# Altium footprint library 5051102291.PcbLib: 1 footprints
Each footprint in its own frame and in the unit in brackets; x right, y up, seen from the top. Pads: shape width x height; smd on the part's side, far side on the other; paste and mask are expansions set on the pad; w line width, h text height; cw(c..) or ccw(c..) is an arc to the next point about the centre after c.
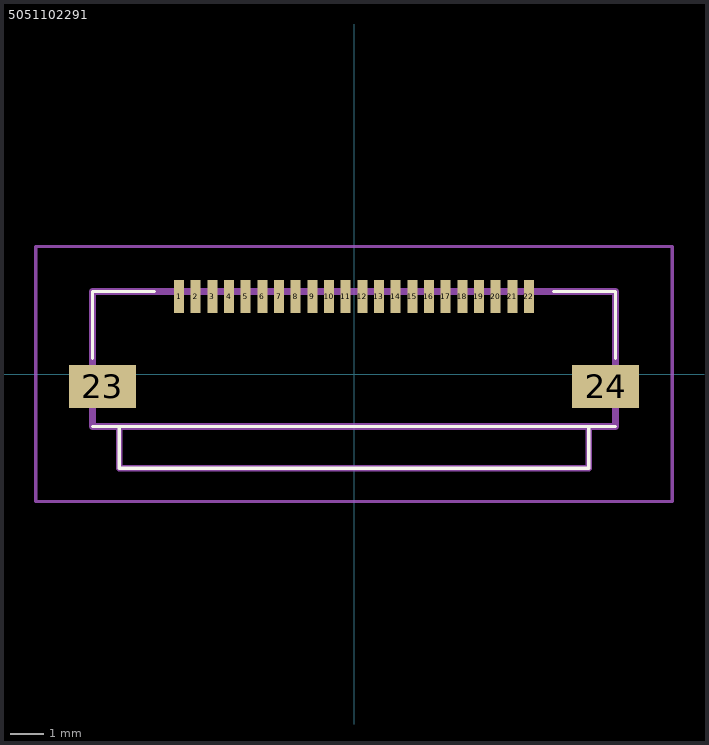
[diagram p0: the footprint, top view; thin cyan lines are the x and y axes]

## 5051102291 [mm]
pads (24):
  rect 0.3x1 smd: 1(-5.25,2.325) 2(-4.75,2.325) 3(-4.25,2.325) 4(-3.75,2.325) 5(-3.25,2.325) 6(-2.75,2.325) 7(-2.25,2.325) 8(-1.75,2.325) 9(-1.25,2.325) 10(-0.75,2.325) 11(-0.25,2.325) 12(0.25,2.325) 13(0.75,2.325) 14(1.25,2.325) 15(1.75,2.325) 16(2.25,2.325) 17(2.75,2.325) 18(3.25,2.325) 19(3.75,2.325) 20(4.25,2.325) 21(4.75,2.325) 22(5.25,2.325)
  rect 2x1.3 smd: 23(-7.55,-0.375) 24(7.55,-0.375)
Top Overlay:
  lines w0.1: -7.85,-1.575 7.85,-1.575 ; -7.85,0.475 -7.85,2.325 -7.85,2.475 -6.5,2.475 -6,2.475 ; -7.05,-1.575 -7.05,-2.825 7.05,-2.825 7.05,-1.575 ; 6,2.475 7.85,2.475 7.85,0.475
Mechanical 15:
  lines w0.2: -7.05,-1.575 -7.05,-2.825 7.05,-2.825 7.05,-1.575 ; -7.85,-1.575 7.85,-1.575 7.85,2.475 -7.85,2.475 -7.85,-1.575
Mechanical 20:
  lines w0.1: -9.55,-3.825 9.55,-3.825 9.55,3.825 -9.55,3.825 -9.55,-3.825